# Altium footprint library Crystal.PcbLib: 3 footprints
Each footprint in its own frame and in the unit in brackets; x right, y up, seen from the top. Pads: shape width x height; smd on the part's side, far side on the other; paste and mask are expansions set on the pad; w line width, h text height; cw(c..) or ccw(c..) is an arc to the next point about the centre after c.
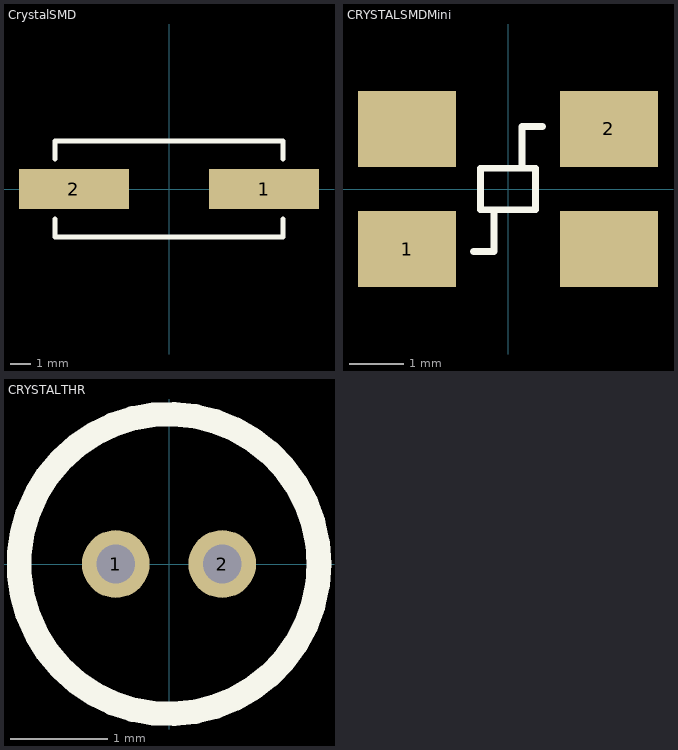
[diagram p0: the footprints below, top view; thin cyan lines are the x and y axes]

## CrystalSMD [mm]
pads (2):
  rect 5.5x2 smd: 1(4.75,0) 2(-4.75,0)
Top Overlay:
  lines w0.254: -5.7,-1.5 -5.7,-2.4 5.7,-2.4 5.7,-1.5 ; -5.7,1.5 -5.7,2.4 5.7,2.4 5.7,1.5
3D body: height 4.3, standoff 0, extent -6.6,-2.4 6.6,2.4

## CRYSTALSMDMini [mm]
pads (4):
  rect 1.8x1.4 smd: 1(-1.85,-1.1) 2(1.85,1.1) ""(-1.85,1.1) ""(1.85,-1.1)
Top Overlay:
  lines w0.127: -0.635,-1.143 -0.254,-1.143 -0.254,-0.381 ; 0.254,0.381 0.254,1.143 0.635,1.143 ; -0.508,-0.381 -0.508,0.381 0.508,0.381 0.508,-0.381 -0.508,-0.381
3D body: height 0.9, standoff -0.05, extent -2.5,-1.651 2.5,1.549

## CRYSTALTHR [mm] "Crystal Thru - Hole"
pads (2):
  round 0.7 hole 0.4: 1(-0.55,0) 2(0.55,0)
Top Overlay:
  circle w0.254: c0,0 r1.55
3D body: height 8.25, standoff -2.9, extent -1.55,-1.55 1.55,1.55